# Altium schematic symbol library 1049.SchLib: 1 symbol
Pins are listed as number, name and electrical type; pins without a type are passive.

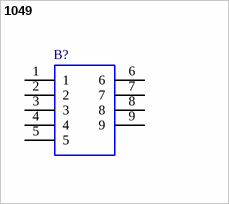
[diagram p0: symbol 1049]

## 1049
designator B?
KEYSTONE - 1049 - BATTERY HOLDER, 18650, THROUGH HOLE; Manufacturer_Name: Keystone Electronics; Geometry.Height: 14mm; Manufacturer_Part_Number: 1049; Mouser Part Number: 534-1049; Mouser Price/Stock: https://www.mouser.co.uk/ProductDetail/Keystone-Electronics/1049?qs=%2F7TOpeL5Mz78b0pqEFIl5w%3D%3D; Arrow Part Number: *; Arrow Price/Stock: *; Mouser Testing Part Number: *; Mouser Testing Price/Stock: *; Datasheet Link: http://www.keyelco.com/product.cfm/product_id/921
footprint 1049
pins: 1, 2, 3, 4, 5, 6, 7, 8, 9